# EAGLE library part LM339D (library LM339D)
Check availability <https://pricing.snapeda.com/parts/LM339D/Texas%20Instruments/view-part?ref=eda>
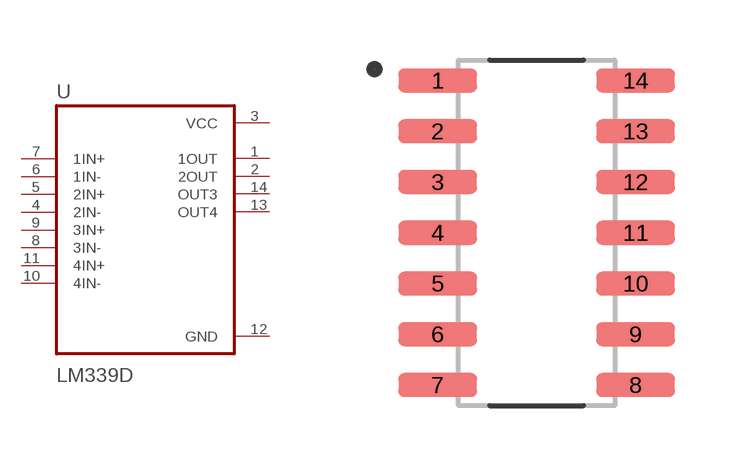
[diagram p0: symbol with the pads of SOIC127P600X175-14N; footprint SOIC127P600X175-14N]

Designator prefix U

## LM339D (Availability: In Stock; Check_prices: https://www.snapeda.com/parts/LM339D/Texas+Instruments/view-part/?ref=eda; Description: Quad differential comparator; MF: Texas Instruments; MP: LM339D; Package: SOIC-14 Texas Instruments; Price: None; Purchase-URL: https://www.snapeda.com/api/url_track_click_mouser/?unipart_id=4792513&manufacturer=Texas Instruments&part_name=LM339D&search_term=lm339; SnapEDA_Link: https://www.snapeda.com/parts/LM339D/Texas+Instruments/view-part/?ref=snap)  [SOIC127P600X175-14N]
1  1OUT  out
2  2OUT  out
3  VCC  pwr
4  2IN-  in
5  2IN+  in
6  1IN-  in
7  1IN+  in
8  3IN-  in
9  3IN+  in
10  4IN-  in
11  4IN+  in
12  GND  pwr
13  OUT4  out
14  OUT3  out

## Footprint SOIC127P600X175-14N (pad centres in mm)
smd 1.97 x 0.6: 1 -2.475,3.81; 2 -2.475,2.54; 3 -2.475,1.27; 4 -2.475,0; 5 -2.475,-1.27; 6 -2.475,-2.54; 7 -2.475,-3.81; 8 2.475,-3.81; 9 2.475,-2.54; 10 2.475,-1.27; 11 2.475,0; 12 2.475,1.27; 13 2.475,2.54; 14 2.475,3.81